# Altium footprint library AA3528VRVFSA.PcbLib: 1 footprints
Each footprint in its own frame and in the unit in brackets; x right, y up, seen from the top. Pads: shape width x height; smd on the part's side, far side on the other; paste and mask are expansions set on the pad; w line width, h text height; cw(c..) or ccw(c..) is an arc to the next point about the centre after c.
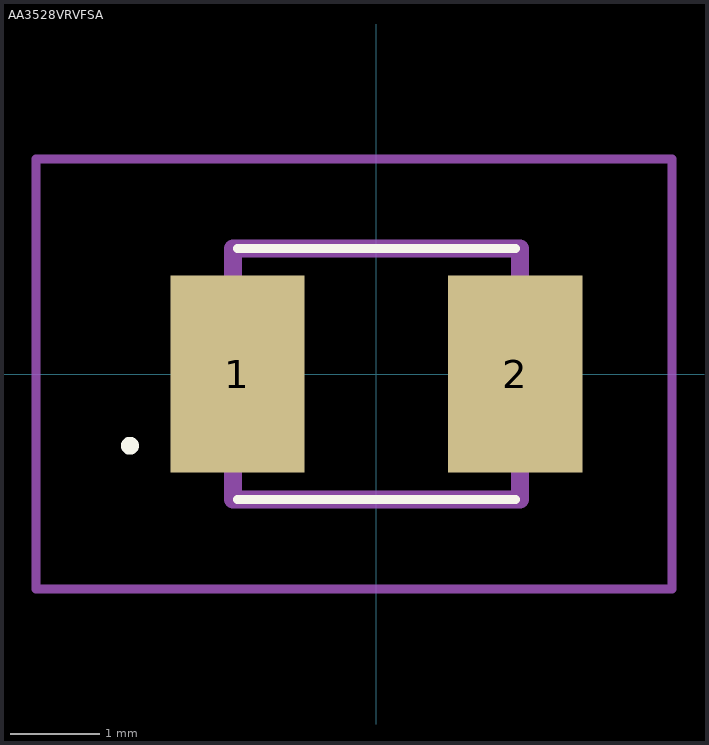
[diagram p0: the footprint, top view; thin cyan lines are the x and y axes]

## AA3528VRVFSA [mm]
pads (2):
  rect 1.5x2.2 smd: 1(-1.55,0) 2(1.55,0)
Top Overlay:
  lines w0.1: -1.55,-1.4 1.55,-1.4 ; -1.55,1.4 1.55,1.4 ; -2.8,-0.8 cw(c-2.75,-0.8) -2.7,-0.8 cw(c-2.75,-0.8) -2.8,-0.8
Mechanical 15:
  lines w0.2: -1.6,-1.4 -1.6,1.4 1.6,1.4 1.6,-1.4 -1.6,-1.4
Mechanical 20:
  lines w0.1: -3.8,-2.4 -3.8,2.4 3.3,2.4 3.3,-2.4 -3.8,-2.4
3D body "AA3528VRVFS_A.stp": height 1.92, standoff 0.02, extent -1.75,-1.4 1.75,1.4